# Altium footprint library Dien Tro.PcbLib: 34 footprints (part 1 of 3)
Each footprint in its own frame and in the unit in brackets; x right, y up, seen from the top. Pads: shape width x height; smd on the part's side, far side on the other; paste and mask are expansions set on the pad; w line width, h text height; cw(c..) or ccw(c..) is an arc to the next point about the centre after c.
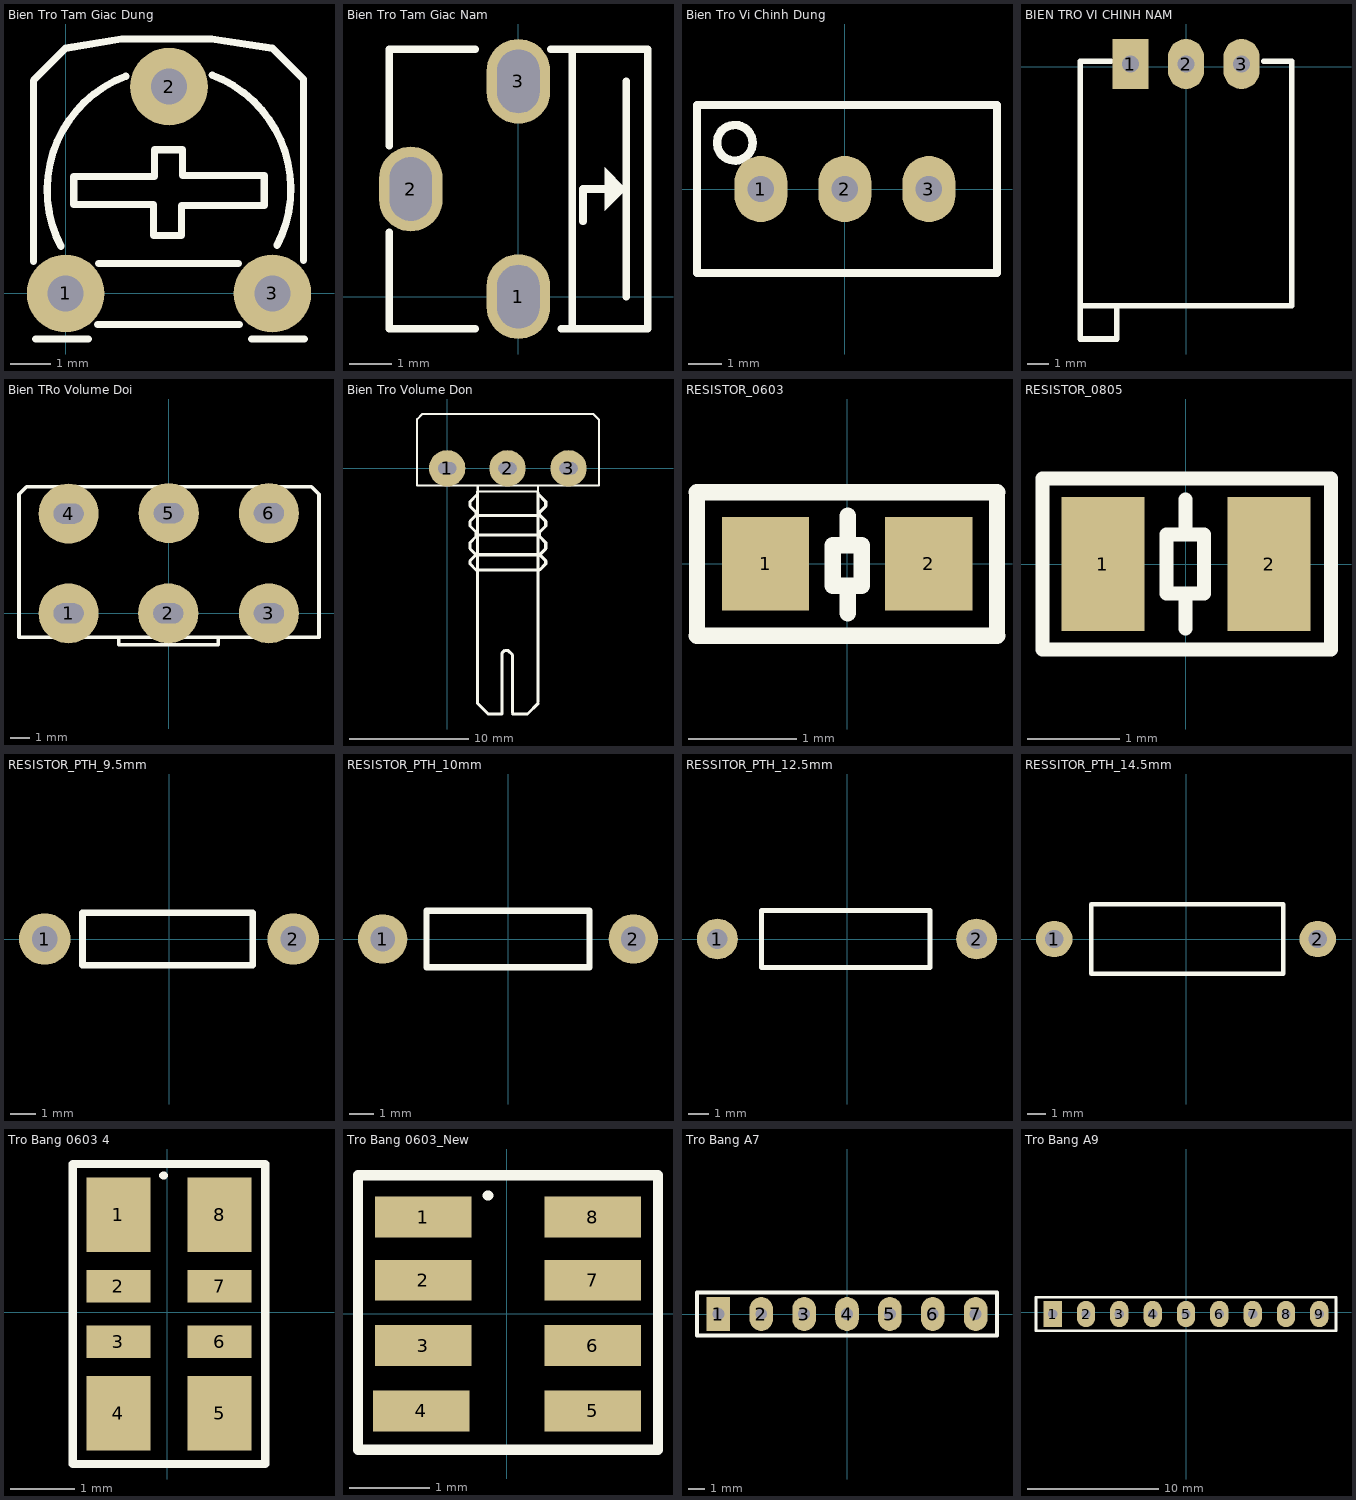
[diagram p0: the footprints below, top view; thin cyan lines are the x and y axes]

## Bien Tro Tam Giac Dung [mil] "RM065"
height 200
pads (3):
  round 75 hole 35: 1(0,0) 2(100,200) 3(200,0)
Top Overlay:
  lines w7: -31,31 -31,206 0,237 54,246 141.5,246 200,237 230,207 230,32 ; -29,-44 22,-44 ; -4.35,45.34 cw(c100,100) 58.1,210.1 ; 8,113 8,86 85,86 85,56 112,56 112,85 192,85 192,114 113,114 113,139 86,139 86,113 9,113 ; 31,-30 168,-30 ; 32,29 167,29 ; 141.9,211.1 cw(c100,101) 204.35,46.34 ; 180,-44 231,-44
3D body "Bien TroTam Giac.step": height 278.74, standoff -150.39, extent -27.95,-49.68 227.95,227.88

## Bien Tro Tam Giac Nam [mm] "RM063"
pads (3):
  oval 1.5x2 hole 1 slot 1.5 at 90 deg: 1(0,0) 2(-2.54,2.54) 3(0,5.08)
Top Overlay:
  region: 2.032,3.048 2.032,2.032 2.54,2.54
  lines w0.178: -3.048,1.524 -3.048,-0.762 -1.016,-0.762 ; -3.048,3.556 -3.048,5.842 -1.016,5.842 ; 0.762,5.842 3.048,5.842 3.048,-0.762 1.016,-0.762 ; 1.27,-0.762 1.27,5.842 ; 1.524,1.778 1.524,2.54 2.032,2.54 ; 2.54,0 2.54,5.08
3D body "User Library-RM-063.STEP": height 9.5, standoff -1.81, extent -2.683,-0.71 2.946,5.79

## Bien Tro Vi Chinh Dung [mm] "Bien tro vi chinh"
pads (3):
  oval 1.6x2 hole 0.8: 1(-2.54,0) 2(0,0) 3(2.54,0)
Top Overlay:
  circle w0.254: c-3.327,1.397 r0.539
  lines w0.254: -4.47,-2.54 -4.47,2.54 4.597,2.54 4.597,-2.54 -4.47,-2.54
3D body "User Library-Potenciometro Vertical.step": height 12.02, standoff -5.48, extent -4.537,-2.4 4.663,2.4

## BIEN TRO VI CHINH NAM [mil]
pads (3):
  rect 65x90 hole 30: 1(-100,5)
  oval 65x90 hole 30: 2(0,5) 3(100,5)
Top Overlay:
  lines w10: -190,-455 -190,10 -135,10 ; -125,-430 -125,-490 -190,-490 -190,-430 190,-430 190,10 140,10
3D body "SW3dPS-Bourns_3299W.STEP": height 225.6, standoff -14.4, extent -187.5,-490 187.5,10

## Bien TRo Volume Doi [mil] "Volume control Dual"
height 400
pads (6):
  round 120 hole 40 slot 60 at 0 deg: 1(-200,0) 2(-1,0) 3(200,0) 4(-200,199) 5(0,200) 6(200,200)
Top Overlay:
  lines w7: -100,-48 -100,-63 99,-63 99,-48 ; -299,-48 300,-48 300,238 285,253 -284,253 -299,238 -299,-48
3D body "SW3dPS-ALPHA-potentiometer stereo PCB mount.STEP": height 834.65, standoff -129.92, extent -338.65,-1309.27 330.65,299

## Bien Tro Volume Don [mil] "Volume control single"
pads (3):
  round 120 hole 40 slot 60 at 0 deg: 1(0,0) 2(199,0) 3(400,0)
Top Overlay:
  lines w7: 100,-57 100,-77 299,-77 299,-57 ; 101,-77 101,-57 ; -99,-57 500,-57 500,161 482,179 -82,179 -99,162 -99,-57
  lines w10: 95,-335 75,-315 75,-305 95,-285 75,-265 75,-245 95,-225 95,-210 75,-190 75,-175 95,-155 95,-145 75,-125 75,-110 100,-85 ; 95,-220 300,-220 ; 100,-770 100,-77 ; 100,-760 100,-775 135,-810 180,-810 180,-610 190,-600 200,-600 215,-615 215,-805 ; 100,-335 305,-335 325,-315 325,-305 305,-285 ; 100,-285 305,-285 ; 105,-155 300,-155 ; 215,-810 265,-810 300,-775 ; 300,-770 300,-80 ; 300,-85 325,-110 325,-125 305,-145 305,-155 325,-175 325,-190 305,-210 305,-225 325,-245 325,-265 305,-285
3D body "SW3dPS-Pot.STEP": height 839.35, standoff -130, extent -110,-818.11 510,188.11

## RESISTOR_0603 [mm]
pads (2):
  rect 0.806x0.864 smd: 1(-0.753,0) 2(0.753,0)
Top Overlay:
  lines w0.152: 0.004,-0.456 0.004,-0.202 ; 0.004,0.173 0.004,0.444 ; -1.385,-0.661 1.382,-0.662 1.382,0.66 -1.385,0.66 -1.385,-0.661 ; -0.135,-0.202 -0.135,0.173 0.135,0.173 0.135,-0.202 -0.135,-0.202
3D body "RESISTOR_0603.step": height 0.47, standoff 0.01, extent -0.795,-0.402 0.805,0.398

## RESISTOR_0805 [mm]
pads (2):
  rect 0.9x1.45 smd: 1(-0.9,0) 2(0.9,0)
Top Overlay:
  lines w0.152: -0.006,-0.697 -0.006,-0.316 ; -0.006,0.7 -0.006,0.319 ; -0.006,-0.316 0.197,-0.316 0.197,0.319 -0.006,0.319 ; -0.006,-0.316 -0.209,-0.316 -0.209,0.319 -0.006,0.319 ; -1.555,-0.925 -1.555,0.929 1.569,0.929 1.569,-0.925 -1.555,-0.925
3D body "R0805.STEP": height 0.46, standoff -0.01, extent -0.98,-0.636 1.02,0.614

## RESISTOR_PTH_9.5mm [mm]
pads (2):
  round 2 hole 1: 1(-4.826,0) 2(4.826,0)
Top Overlay:
  lines w0.254: -3.36,-1.016 -3.36,1.016 3.244,1.016 3.244,-1.016 -3.36,-1.016
3D body "1K-Resistor 0.25w Beige- Diameter 2- 9.5- 5%.stp": height 2.61, standoff -3.7, extent -4.999,-1.111 4.999,1.11

## RESISTOR_PTH_10mm [mm]
pads (2):
  round 2 hole 1: 1(-5.08,0) 2(5.08,0)
Top Overlay:
  lines w0.254: -3.302,-1.143 3.302,-1.143 3.302,1.143 -3.302,1.143 -3.302,-1.143
3D body "RESISTOR.step": height 2.4, standoff -2.73, extent -5.33,-1.143 5.33,1.15

## RESSITOR_PTH_12.5mm [mm]
pads (2):
  round 2 hole 1: 1(-6.35,0) 2(6.35,0)
Top Overlay:
  lines w0.254: -4.191,-1.397 4.064,-1.397 4.064,1.397 -4.191,1.397 -4.191,-1.397
3D body "1K-Resistor 0.5w Beige- Diameter 2.5- 12.5- 5%.stp": height 3.2, standoff -3.6, extent -6.549,-1.509 6.549,1.5

## RESSITOR_PTH_14.5mm [mm]
pads (2):
  round 2 hole 1: 1(-7.239,0) 2(7.239,0)
Top Overlay:
  lines w0.254: -5.207,-1.905 5.334,-1.905 5.334,1.905 -5.207,1.905 -5.207,-1.905
3D body "1K-Resistor 1w Blue- Diameter 3.5- 14.5- 1%.stp": height 4.31, standoff -3.5, extent -7.549,-2.015 7.549,2.016

## Tro Bang 0603 4 [mil]
height 300
pads (8):
  rect 39.37x45.67 smd: 1(-30,60) 4(-30,-62) 5(32,-62) 8(32,60)
  rect 39.37x20 smd: 2(-30.06,16.08) 3(-30,-18.08) 6(32.06,-18.08) 7(32.06,16.08)
Top Overlay:
  lines w5: -2.5,84 -2,84 ; -58,-93 60,-93 60,91 -27.25,91 -37.44,91 -47.81,91 -58,91 -58,-93
3D body "Tro bang smd0805.step": height 21.65, standoff 0, extent -29.5,-63.98 33.5,62

## Tro Bang 0603_New [mil]
pads (8):
  rect 47.24x20 smd: 1(-41,47.5) 2(-41,16.5) 3(-41,-15.5) 4(-42,-47.5) 5(42,-47.5) 6(42,-15.5) 7(42,16.5) 8(42,47.5)
Top Overlay:
  lines w5: -9.5,58 -9,58 ; -73,-66.5 74,-66.5 74,68 -35,68 -73,68 -73,-66.5
3D body "Tro bang smd0805.step": height 21.65, standoff 0, extent -31.5,-60.49 31.5,65.5

## Tro Bang A7 [mm]
pads (7):
  rect 1.4x2 hole 0.7: 1(-7.62,0)
  oval 1.4x2 hole 0.7: 2(-5.08,0) 3(-2.54,0) 4(0,0) 5(2.54,0) 6(5.08,0) 7(7.62,0)
Top Overlay:
  lines w0.254: -8.89,-1.27 -8.89,1.27 8.89,1.27 8.89,-1.27 -8.89,-1.27
3D body "68010.stp": height 5.94, standoff -2.44, extent -8.865,-1.22 8.865,1.27

## Tro Bang A9 [mm]
pads (9):
  rect 1.4x2 hole 0.7: 1(-10.16,-0.127)
  oval 1.4x2 hole 0.7: 2(-7.62,-0.127) 3(-5.08,-0.127) 4(-2.54,-0.127) 5(0,-0.127) 6(2.54,-0.127) 7(5.08,-0.127) 8(7.62,-0.127) 9(10.16,-0.127)
Top Overlay:
  lines w0.2: -11.43,-1.397 11.43,-1.397 11.43,1.143 -11.43,1.143 -11.43,-1.397
3D body "Tro bang 9.step": height 5.57, standoff -2.93, extent -11.25,-0.762 11.25,0.488